# Altium schematic symbol library Generic.SchLib: 5 symbols
Pins are listed as number, name and electrical type; pins without a type are passive.

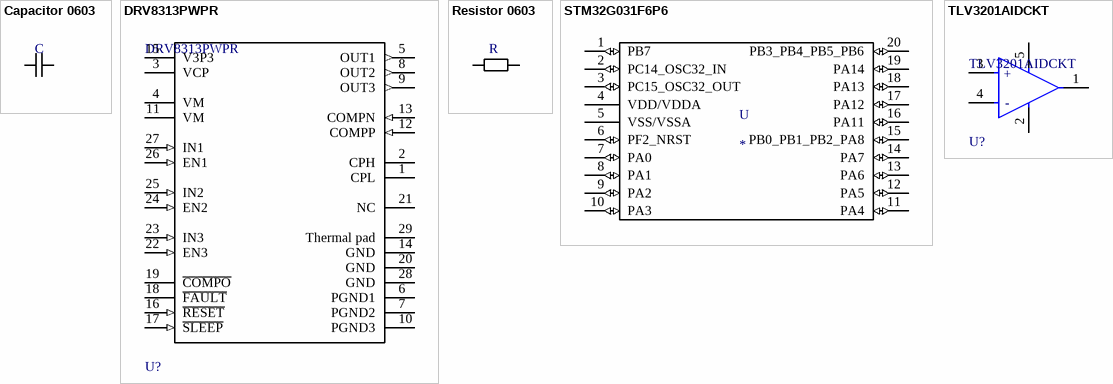
[diagram p0: symbols Capacitor 0603 to TLV3201AIDCKT]

## Capacitor 0603
designator C
Generic 0603 Capacitor
footprint Capacitor 0603
pins: 1, 2

## DRV8313PWPR
designator U?
IC MOTOR DRIVER 8V-60V 28HTSSOP; Min Supply Voltage: 8V; Max Supply Voltage: 60V; Interface: Parallel; Output Current: 1.75A; Number of Outputs: 1; Logic Function: AND GATE; Package Quantity: 2000; Number of Pins: 28; Case/Package: HTSSOP; Min Operating Temperature: -40°C; Mount: Surface Mount; Series: -; Packaging: Tape and Reel; Max Operating Temperature: 125°C; Lead Free: Lead Free
footprint FP-PWP0028C-IPC_A
pins: 1 CPL (power), 2 CPH (power), 3 VCP (power), 4 VM (power), 5 OUT1 (out), 6 PGND1 (power), 7 PGND2 (power), 8 OUT2 (out), 9 OUT3 (out), 10 PGND3 (power), 11 VM (power), 12 COMPP (in), 13 COMPN (in), 14 GND (power), 15 V3P3 (power), 16 ~{RESET} (in), 17 ~{SLEEP} (in), 18 ~{FAULT} (oc), 19 ~{COMPO} (oc), 20 GND (power), 21 NC, 22 EN3 (in), 23 IN3 (in), 24 EN2 (in), 25 IN2 (in), 26 EN1 (in), 27 IN1 (in), 28 GND (power), 29 Thermal pad (power)

## Resistor 0603
designator R
Generic 0603 Resistor
footprint Resistor 0603
pins: 1, 2

## STM32G031F6P6
designator U
footprint TSSOP20
pins: 1 PB7 (io), 2 PC14_OSC32_IN (io), 3 PC15_OSC32_OUT (io), 4 VDD/VDDA (power), 5 VSS/VSSA (power), 6 PF2_NRST (io), 7 PA0 (io), 8 PA1 (io), 9 PA2 (io), 10 PA3 (io), 11 PA4 (io), 12 PA5 (io), 13 PA6 (io), 14 PA7 (io), 15 PB0_PB1_PB2_PA8 (io), 16 PA11 (io), 17 PA12 (io), 18 PA13 (io), 19 PA14 (io), 20 PB3_PB4_PB5_PB6 (io)

## TLV3201AIDCKT
designator U?
IC COMPARATOR RRI SGL SC70-5; Number of Elements: 1; Nominal Supply Current: 50uA; Min Supply Voltage: 2.7V; Power Supply Rejection Ratio (PSRR): 85dB; Max Input Current: 5nA; Output Type: PUSH-PULL; Max Supply Current: 40uA; Common Mode Rejection Ratio: 70dB; Hysteresis: 1.2mV; Propagation Delay: 50ns; Response Time: 40ns; Input Offset Voltage (Vos): 5mV; Max Supply Voltage: 5.5V; Number of Pins: 5; Radiation Hardening: No; Height: 1mm; Packaging: Tape and Reel; Min Operating Temperature: -40°C; RoHS Compliant: Yes; Width: 1.4mm; Length: 2.15mm; Case/Package: SC; Input Bias Current: 5nA; Mount: Surface Mount; REACH SVHC: No SVHC; Max Operating Temperature: 125°C; Supply Current: 50uA; Lead Free: Lead Free; Quiescent Current: 40uA; Package Quantity: 250; Contact Plating: Gold; Series: -; Type: General Purpose; Number of Channels: 1
footprint SC70
pins: 1 OUT, 2 GND (power), 3 IN+ (hiz), 4 IN- (hiz), 5 VCC (power)
text: +